# Altium footprint library 1287.PcbLib: 1 footprints
Each footprint in its own frame and in the unit in brackets; x right, y up, seen from the top. Pads: shape width x height; smd on the part's side, far side on the other; paste and mask are expansions set on the pad; w line width, h text height; cw(c..) or ccw(c..) is an arc to the next point about the centre after c.
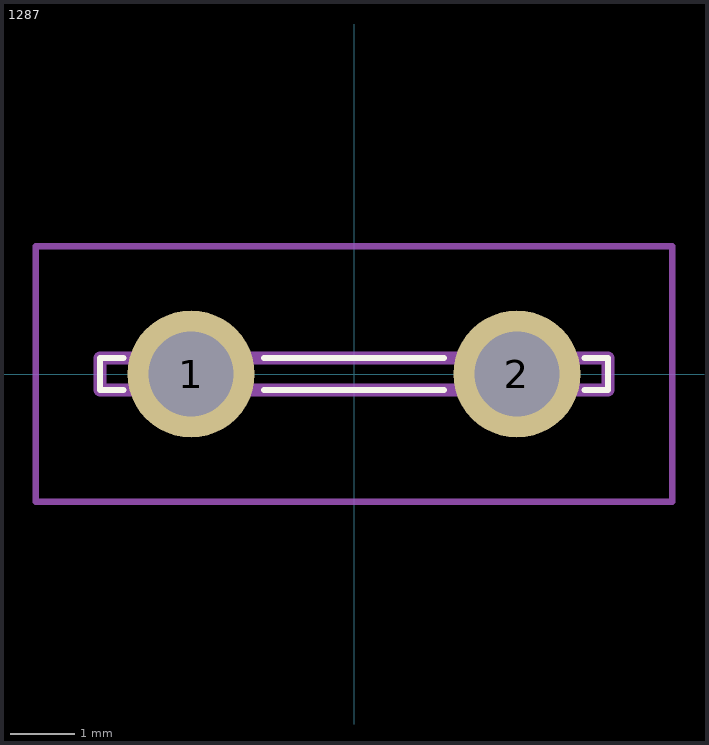
[diagram p0: the footprint, top view; thin cyan lines are the x and y axes]

## 1287 [mm]
pads (2):
  round 1.98 hole 1.32: 1(-2.54,0) 2(2.54,0)
Top Overlay:
  lines w0.1: -3.6,-0.25 -3.96,-0.25 -3.96,0.25 -3.6,0.25 ; -1.4,-0.25 1.4,-0.25 ; -1.4,0.25 1.4,0.25 ; 3.6,-0.25 3.96,-0.25 3.96,0.2 3.96,0.25 3.6,0.25
Mechanical 15:
  lines w0.2: -3.96,-0.25 3.96,-0.25 3.96,0.25 -3.96,0.25 -3.96,-0.25
Mechanical 20:
  lines w0.1: -4.96,-1.99 4.96,-1.99 4.96,1.99 -4.96,1.99 -4.96,-1.99
3D body "1287.stp": height 5.8, standoff -4.65, extent -10,-3.376 10,3.376